# EAGLE library part WEMOS-D1-MINI (library esp8266modules)
WeMos.cc D1 mini ESP8266 module
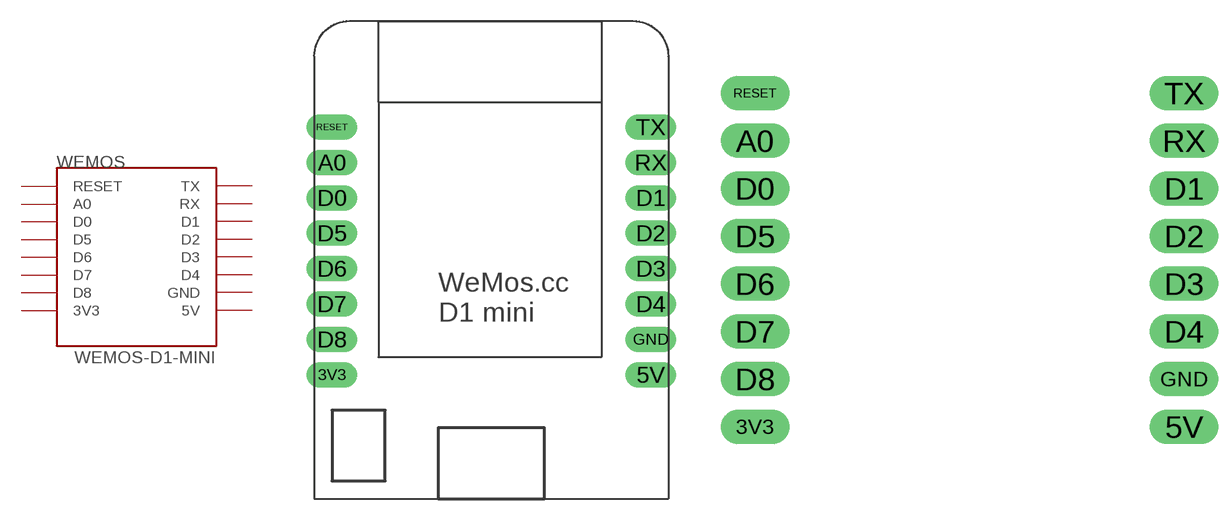
[diagram p17: symbol with the pads of WEMOS-D1-MINI; footprints WEMOS-D1-MINI, WEMOS_D1_MINI_NOTXT]

Designator prefix WEMOS

## WEMOS-D1-MINITXT  [WEMOS-D1-MINI]
3V3  3V3
5V  5V
A0  A0
D0  D0
D1  D1
D2  D2
D3  D3
D4  D4
D5  D5
D6  D6
D7  D7
D8  D8
GND  GND
RESET  RESET
RX  RX
TX  TX

## WEMOS-D1-MININOTXT  [WEMOS_D1_MINI_NOTXT]
Pads as for WEMOS-D1-MINI

## Footprint WEMOS-D1-MINI (pad centres in mm)
WeMos.cc D1 mini ESP8266 module
drill 1.016 pad 1.829 long: 3V3 -10.16,-10.16; 5V 12.7,-10.16; A0 -10.16,5.08; D0 -10.16,2.54; D1 12.7,2.54; D2 12.7,0; D3 12.7,-2.54; D4 12.7,-5.08; D5 -10.16,0; D6 -10.16,-2.54; D7 -10.16,-5.08; D8 -10.16,-7.62; GND 12.7,-7.62; RESET -10.16,7.62; RX 12.7,5.08; TX 12.7,7.62

## Footprint WEMOS_D1_MINI_NOTXT (pad centres in mm)
drill 1.016 pad 1.829 long: 3V3 -11.43,-11.43; 5V 11.43,-11.43; A0 -11.43,3.81; D0 -11.43,1.27; D1 11.43,1.27; D2 11.43,-1.27; D3 11.43,-3.81; D4 11.43,-6.35; D5 -11.43,-1.27; D6 -11.43,-3.81; D7 -11.43,-6.35; D8 -11.43,-8.89; GND 11.43,-8.89; RESET -11.43,6.35; RX 11.43,3.81; TX 11.43,6.35